# EAGLE library part TDA8580J/TDA8581J (library Audio-Power-amlifier V.2.0)
The TDA8580J is a stereo Bridge-Tied Load (BTL) or a quad Single-Ended (SE) amplifier that operates over a wide supply voltage range from 8 to 24 V. This makes it suitable for applications such as television, home-sound systems and active speakers. The TDA8581 is a stereo bridge-tied load (BTL) or a quad single-ended amplifier that operates over a wide supply voltage range from 8 to 28 V. This makes it suitable for many applications, such as car radios, television and home-sound systems.
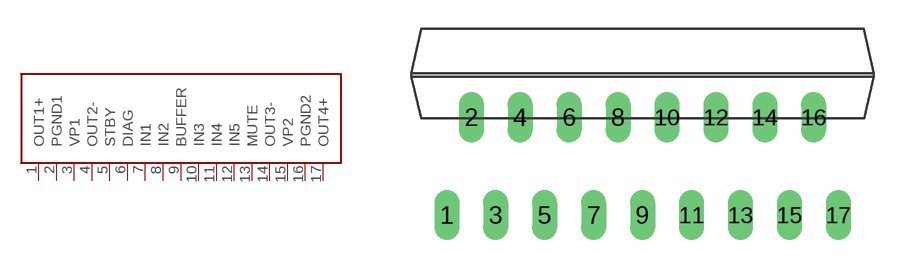
[diagram p220: symbol with the pads of SOT243-1; footprint SOT243-1]

Designator prefix IC

## TDA8580J/TDA8581J  [SOT243-1]
1  OUT1+  out
2  PGND1  pwr
3  VP1  pwr
4  OUT2-  out
5  STBY  in
6  DIAG  out
7  IN1  in
8  IN2  in
9  BUFFER  out
10  IN3  in
11  IN4  in
12  IN5  in
13  MUTE  in
14  OUT3-  out
15  VP2  pwr
16  PGND2  pwr
17  OUT4+  out

## Footprint SOT243-1 (pad centres in mm)
DBS17P: plastic DIL-bent-SIL power package; 17 leads (lead length 7.7 mm)
drill 0.8 long: 1 -10.16,-5.08; 2 -8.89,0; 3 -7.62,-5.08; 4 -6.35,0; 5 -5.08,-5.08; 6 -3.81,0; 7 -2.54,-5.08; 8 -1.27,0; 9 0,-5.08; 10 1.27,0; 11 2.54,-5.08; 12 3.81,0; 13 5.08,-5.08; 14 6.35,0; 15 7.62,-5.08; 16 8.89,0; 17 10.17,-5.08